# EAGLE library part XFMR_GA0007 (library wheat)
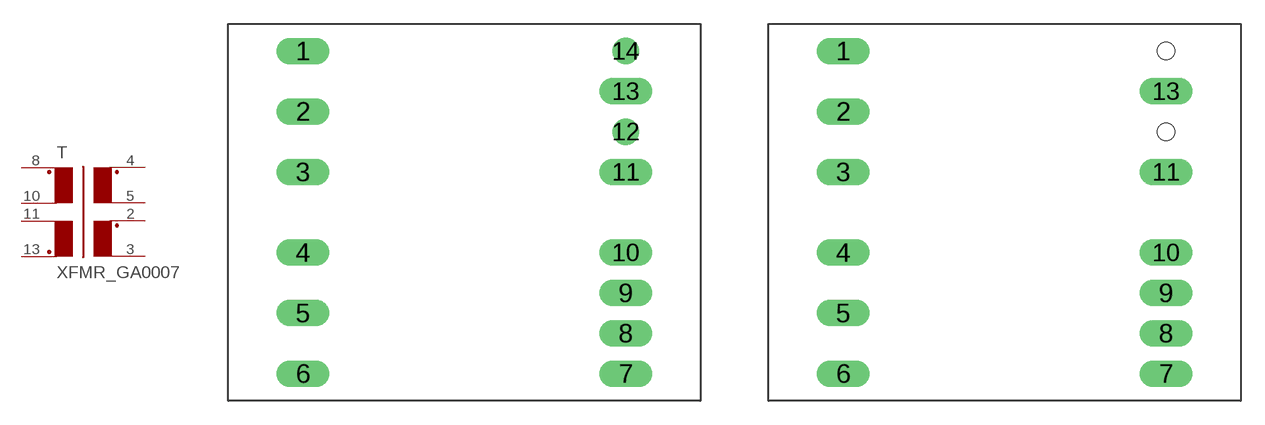
[diagram p195: symbol with the pads of XFMR_GA0007; footprints XFMR_GA0007, XFMR_GA0007_B]

Designator prefix T

## XFMR_GA0007  [XFMR_GA0007]
2  S1P  pas
3  S1N  pas
4  S2P  pas
5  S2N  pas
8  BP  pas
10  BN  pas
11  PN  pas
13  PP  pas

## XFMR_GA0007B  [XFMR_GA0007_B]
2  S2P  pas
3  S2N  pas
4  S1P  pas
5  S1N  pas
8  BP  pas
10  BN  pas
11  PP  pas
13  PN  pas

## Footprint XFMR_GA0007 (pad centres in mm)
drill 1.118 long: 1 -10.16,10.16; 2 -10.16,6.35; 3 -10.16,2.54; 4 -10.16,-2.54; 5 -10.16,-6.35; 6 -10.16,-10.16; 7 10.16,-10.16; 8 10.16,-7.62; 9 10.16,-5.08; 10 10.16,-2.54; 11 10.16,2.54; 13 10.16,7.62
drill 1.118 pad 0.254: 12 10.16,5.08; 14 10.16,10.16

## Footprint XFMR_GA0007_B (pad centres in mm)
drill 1.118 long: 1 -10.16,10.16; 2 -10.16,6.35; 3 -10.16,2.54; 4 -10.16,-2.54; 5 -10.16,-6.35; 6 -10.16,-10.16; 7 10.16,-10.16; 8 10.16,-7.62; 9 10.16,-5.08; 10 10.16,-2.54; 11 10.16,2.54; 13 10.16,7.62
hole 1.1 at 10.16,10.16
hole 1.1 at 10.16,5.08